# Altium footprint library SSW-115-01-T-D.PcbLib: 1 footprints
Each footprint in its own frame and in the unit in brackets; x right, y up, seen from the top. Pads: shape width x height; smd on the part's side, far side on the other; paste and mask are expansions set on the pad; w line width, h text height; cw(c..) or ccw(c..) is an arc to the next point about the centre after c.
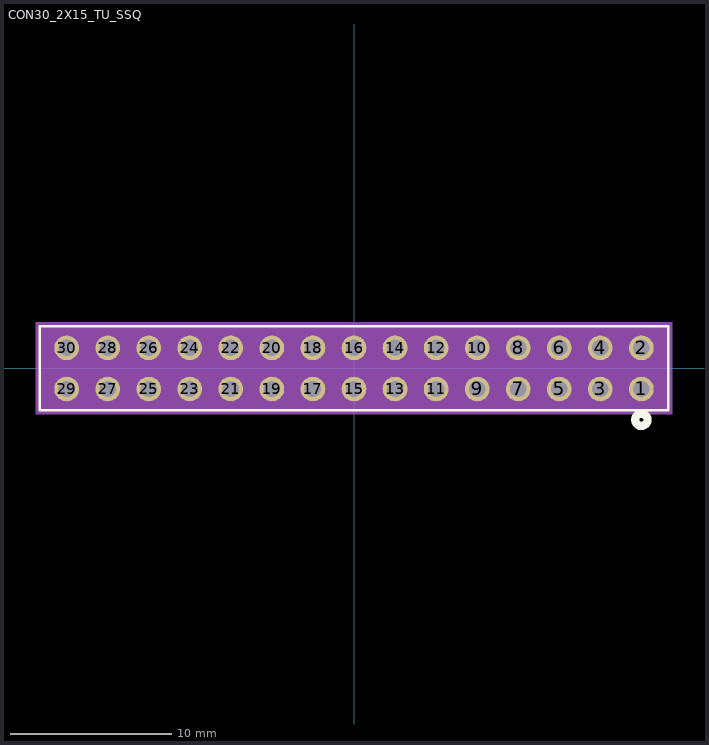
[diagram p0: the footprint, top view; thin cyan lines are the x and y axes]

## CON30_2X15_TU_SSQ [mil]
pads (30):
  round 60 hole 40 mask+0: 1(700,-50) 2(700,50) 3(600,-50) 4(600,50) 5(500,-50) 6(500,50) 7(400,-50) 8(400,50) 9(300,-50) 10(300,50) 11(200,-50) 12(200,50) 13(100,-50) 14(100,50) 15(0,-50) 16(0,50) 17(-100,-50) 18(-100,50) 19(-200,-50) 20(-200,50) 21(-300,-50) 22(-300,50) 23(-400,-50) 24(-400,50) 25(-500,-50) 26(-500,50) 27(-600,-50) 28(-600,50) 29(-700,-50) 30(-700,50)
Top Overlay:
  circle w20: c700,-125 r15
  lines w6: -765,-102 765,-102 765,103 -765,103 -765,-102
Bottom Overlay:
  circle w20: c700,-125 r15
Mechanical 5:
  region: -775,113 775,113 775,-112 -775,-112
Mechanical 13:
  circle w0: c700,-50 r10
  lines w1: -760,-97 760,-97 760,98 -760,98 -760,-97
Mechanical 15:
  region: 770,108 740,108 -740,108 -770,108 -770,-107 -740,-107 740,-107 770,-107
  lines w6: -740,-107 -770,-107 -770,108 -740,108 ; -740,-107 -740,-107 ; -740,-107 740,-107 ; -740,108 740,108 ; -740,108 -740,108 ; 740,-107 740,-107 ; 740,-107 770,-107 770,108 740,108 ; 740,108 740,108
3D body: height 10, standoff 0, extent 0,0 10,10